# EAGLE library part TLV1702 (library GTA04b7)
Dual Comparator with Open Collector output
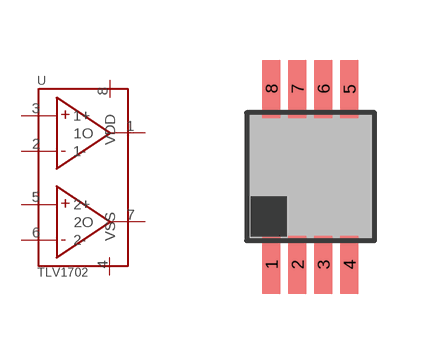
[diagram p43: symbol with the pads of R-PDSO-G8-0.65; footprint R-PDSO-G8-0.65]

Designator prefix -

## TLV1702DGK  [R-PDSO-G8-0.65]
1  1O  out
2  1-  in
3  1+  in
4  VSS  pwr
5  2+  in
6  2-  in
7  2O  out
8  VDD  pwr

## Footprint R-PDSO-G8-0.65 (pad centres in mm)
Texas Instruments DGK
smd 0.45 x 1.45: 1 -0.975,-2.2; 2 -0.325,-2.2; 3 0.325,-2.2; 4 0.975,-2.2; 5 0.975,2.2; 6 0.325,2.2; 7 -0.325,2.2; 8 -0.975,2.2